# Altium schematic symbol library TPS26750SRSMR.Schlib: 1 symbol
Pins are listed as number, name and electrical type; pins without a type are passive.

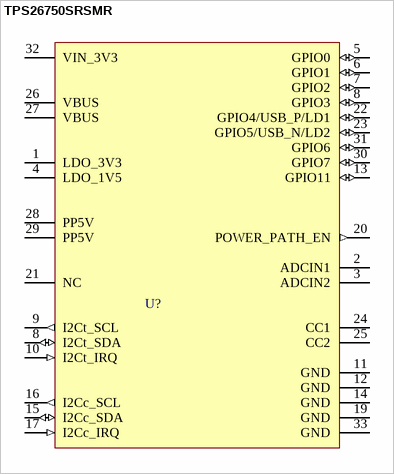
[diagram p0: symbol TPS26750SRSMR]

## TPS26750SRSMR
designator U?
USB Interface IC USB Type-C and USB P ower Delivery (PD) 3
pins: 1 LDO_3V3 (power), 2 ADCIN1, 3 ADCIN2, 4 LDO_1V5 (power), 5 GPIO0 (io), 6 GPIO1 (io), 7 GPIO2 (io), 8 GPIO3 (io), 8 I2Ct_SDA (io), 9 I2Ct_SCL (out), 10 I2Ct_IRQ (in), 11 GND (power), 12 GND (power), 13 GPIO11 (io), 14 GND (power), 15 I2Cc_SDA (io), 16 I2Cc_SCL (out), 17 I2Cc_IRQ (in), 19 GND (power), 20 POWER_PATH_EN (out), 21 NC (hiz), 22 GPIO4/USB_P/LD1 (io), 23 GPIO5/USB_N/LD2 (io), 24 CC1 (power), 25 CC2 (power), 26 VBUS (power), 27 VBUS (power), 28 PP5V (power), 29 PP5V (power), 30 GPIO7 (io), 31 GPIO6 (io), 32 VIN_3V3 (power), 33 GND (power)